# EAGLE library part MT3608 (library mgvc)
DC-DC step-up Входное напряжение: от 2V до 24V Фиксированная частота преобразования 1.2MHz Внутренний 4A ключ
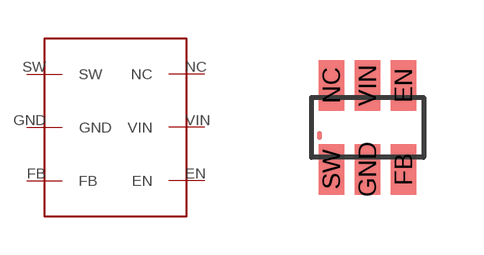
[diagram p2: symbol with the pads of MT3608; footprint MT3608]

Designator prefix -

## MT3608  [MT3608]
EN  EN
FB  FB
GND  GND
NC  NC
SW  SW
VIN  VIN

## Footprint MT3608 (pad centres in mm)
Входное напряжение: от 2V до 24V Фиксированная частота преобразования 1.2MHz Внутренний 4A ключ
smd 0.635 x 1.27: EN 2.3,0.3; FB 2.3,-1.8; GND 1.4,-1.8; NC 0.5,0.3; SW 0.5,-1.8; VIN 1.4,0.3